# EAGLE library part BME280 (library bosch-bme280)
DIGITAL HUMIDITY, PRESSURE AND TEMPERATURE SENSOR * Digital interface I²C (up to 3.4 MHz) and SPI (3 and 4 wire, up to 10 MHz)* Supply voltage VDD main supply voltage range: 1.71 V to 3.6 V*VDDIO interface voltage range: 1.2 V to 3.6 V Operating range -40…+85 °C, 0…100 % rel. humidity, 300…1100 hPa The library has been designed by Richard Magdycz <https://www.facebook.com/groups/eaglecadsoftUK>
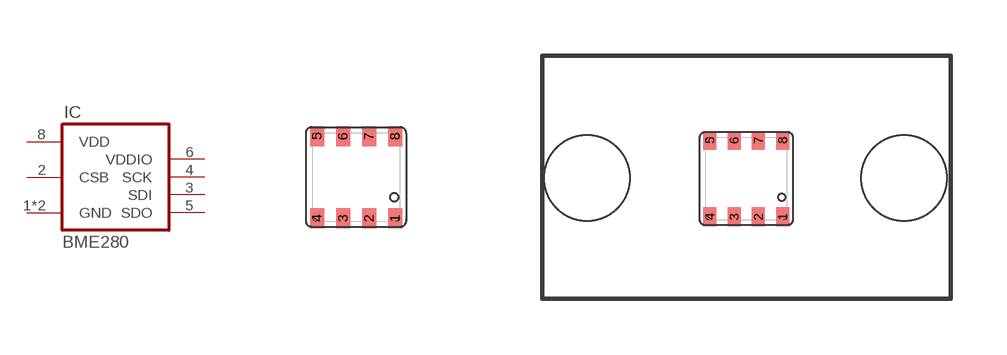
[diagram p0: symbol with the pads of BME280; footprints BME280, BME280-HAT]

Designator prefix IC

## BME280  [BME280]
1  GND  pwr
2  CSB  in
3  SDI
4  SCK
5  SDO  in
6  VDDIO  pwr
7  GND  pwr
8  VDD  pwr

## BME280BM280-HAT  [BME280-HAT]
1  GND  pwr
2  CSB  in
3  SDI
4  SCK
5  SDO  in
6  VDD  pwr
7  GND  pwr
8  VDDIO  pwr

## Footprint BME280 (pad centres in mm)
2.5 mm x 2.5 mm x 0.93 mm metal lid LGA
smd 0.35 x 0.5: 1 0.975,-1.025; 2 0.325,-1.025; 3 -0.325,-1.025; 4 -0.975,-1.025; 5 -0.975,1.025; 6 -0.325,1.025; 7 0.325,1.025; 8 0.975,1.025

## Footprint BME280-HAT (pad centres in mm)
smd 0.35 x 0.5: 1 2.245,-2.295; 2 1.595,-2.295; 3 0.945,-2.295; 4 0.295,-2.295; 5 0.295,-0.245; 6 0.945,-0.245; 7 1.595,-0.245; 8 2.245,-0.245
hole 2.3 at 5.5,-1.25
hole 2.3 at -3,-1.25